# EAGLE library part BME280BRK (library AQS)
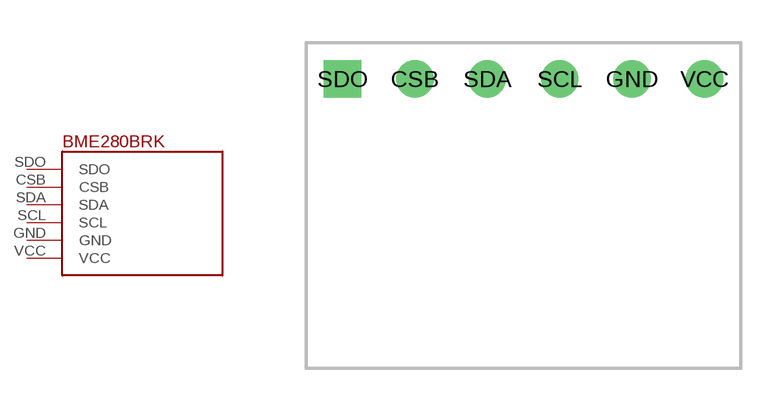
[diagram p0: symbol with the pads of BME280BRK; footprint BME280BRK]

Designator prefix -

## BME280BRK  [BME280BRK]
CSB  CSB
GND  GND  pwr
SCL  SCL
SDA  SDA
SDO  SDO
VCC  VCC  pwr

## Footprint BME280BRK (pad centres in mm)
drill 0.8: CSB -3.81,3.81; GND 3.81,3.81; SCL 1.27,3.81; SDA -1.27,3.81; VCC 6.35,3.81
drill 0.8 square: SDO -6.35,3.81